# Altium schematic symbol library Sch.SchLib: 44 symbols
Pins are listed as number, name and electrical type; pins without a type are passive.

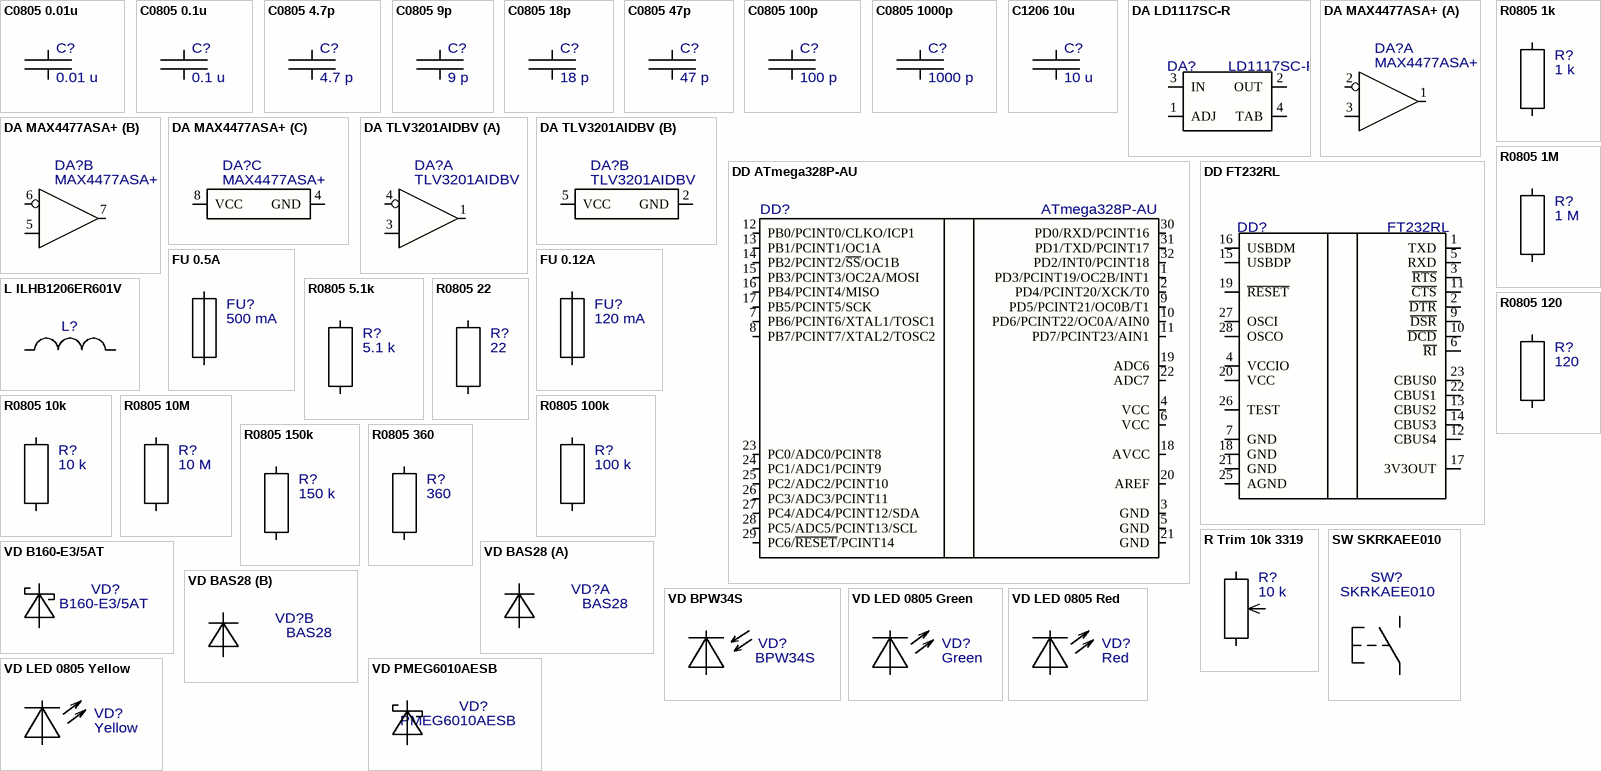
[diagram p0: symbols C0805 0.01u to VD PMEG6010AESB]

## C0805 0.01u
designator C?  value 0.01 u
Ceramic capacitor; Manufacturer: AVX; Part Number: 08055C103KAT2A; Note: 50 VDC X7R -55 +125 10%; Seller: Mouser; Price 10: 0,058; Price 100: 0,026; Price 1000: 0,015
footprint C0805-0.94mm (Chip Capacitor, IPC Medium Density)
pins: 1, 2

## C0805 0.1u
designator C?  value 0.1 u
Ceramic capacitor; Manufacturer: AVX; Part Number: 08055C104KAT2A; Note: 50 VDC X7R -55 +125 10%; Seller: Mouser; Price 10: 0,065; Price 100: 0,030; Price 1000: 0,017
footprint C0805-0.94mm (Chip Capacitor, IPC Medium Density)
pins: 1, 2

## C0805 4.7p
designator C?  value 4.7 p
Ceramic capacitor; Manufacturer: Yageo; Part Number: CC0805CRNPO9BN4R7; Note: 50VDC C0G (NP0) -55 +125 +-0.25p; Seller: Mouser; Price 10: 0,091; Price 100: 0,058; Price 1000: 0,043
footprint C0805-0.94mm (Chip Capacitor, IPC Medium Density)
pins: 1, 2

## C0805 9p
designator C?  value 9 p
Ceramic capacitor; Manufacturer: Yageo; Part Number: CC0805DRNPO9BN9R0; Note: 50 VDC C0G (NP0) -55 +125 0.5pF; Seller: Mouser; Price 10: 0,08; Price 100: 0,037; Price 1000: 0,028
footprint C0805-0.94mm (Chip Capacitor, IPC Medium Density)
pins: 1, 2

## C0805 18p
designator C?  value 18 p
Ceramic capacitor; Manufacturer: Kemet; Part Number: C0805C180K5GACTU; Note: 50 VDC C0G (NP0) -55 +125 10%; Seller: Mouser; Price 10: 0,059; Price 100: 0,041; Price 1000: 0,028
footprint C0805-0.94mm (Chip Capacitor, IPC Medium Density)
pins: 1, 2

## C0805 47p
designator C?  value 47 p
Ceramic capacitor; Manufacturer: Kemet; Part Number: C0805C470J5GACTU; Note: 50 VDC C0G (NP0) -55 +125 10%; Seller: Mouser; Price 10: 0,041; Price 100: 0,028; Price 1000: 0,019
footprint C0805-0.94mm (Chip Capacitor, IPC Medium Density)
pins: 1, 2

## C0805 100p
designator C?  value 100 p
Ceramic capacitor; Manufacturer: Kemet; Part Number: C0805C101J5GACTU; Note: 50 VDC C0G (NP0) -55 +125 10%; Seller: Mouser; Price 10: 0,045; Price 100: 0,030; Price 1000: 0,020
footprint C0805-0.94mm (Chip Capacitor, IPC Medium Density)
pins: 1, 2

## C0805 1000p
designator C?  value 1000 p
Ceramic capacitor; Manufacturer: Kemet; Part Number: C0805C102K5RACTU; Note: 50 VDC X7R -55 +125 10%; Seller: Mouser; Price 10: 0,037; Price 100: 0,026; Price 1000: 0,017
footprint C0805-0.94mm (Chip Capacitor, IPC Medium Density)
pins: 1, 2

## C1206 10u
designator C?  value 10 u
Ceramic capacitor; Manufacturer: Yageo; Part Number: CC1206KKX7R8BB106; Note: 25 VDC X7R -55 +125 10%; Seller: Mouser; Price 10: 0,258; Price 100: 0,123; Price 1000: 0,110
footprint C1206-1.6mm (Chip Capacitor, IPC Medium Density)
pins: 1, 2

## DA LD1117SC-R
designator DA?  Part Number: LD1117SC-R
Adjustable LDO; Manufacturer: ST Microelectronics; Note: 800 mA 1.2V -40 +125 Min load 5 mA; Seller: Mouser; Price 10: 0,561; Price 100: 0,303; Price 1000: 0,227
footprint SOT-223-LD1117SC-R (SOT223, IPC Medium Density)
pins: 1 ADJ (power), 2 OUT (power), 3 IN (power), 4 TAB (power)

## DA MAX4477ASA+
designator DA?  Part Number: MAX4477ASA+
Operational amplifier; Manufacturer: Maxim; Seller: Mouser; Price 10: 2,58; Price 100: 2,58; Price 1000: 2,58
footprint SOIC8-MAX4477ASA (IPC Medium Density)
part A pins: 1 OUT, 2 IN-, 3 IN+
part B pins: 5 IN+, 6 IN-, 7 OUT
part C pins: 4 GND (power), 8 VCC (power)

## DA TLV3201AIDBV
designator DA?  Part Number: TLV3201AIDBV
Push-pull output comparator; Manufacturer: TI; Seller: Mouser; Price 10: 1,67; Price 100: 1,31; Price 1000: 0,773
footprint SOT23-5-TLV3201AIDBV (IPC Medium Density)
part A pins: 1 OUT, 3 IN+, 4 IN-
part B pins: 2 GND (power), 5 VCC (power)

## DD ATmega328P-AU
designator DD?  Part Number: ATmega328P-AU
AVR Microcontroller; Manufacturer: Atmel; Seller: Mouser; Price 10: 3,27; Price 100: 2,71; Price 1000: 2,64
footprint TQFP32-ATmega328P-AU (IPC Medium Density)
pins: 1  PD3/PCINT19/OC2B/INT1, 2 PD4/PCINT20/XCK/T0, 3 GND, 4 VCC, 5 GND, 6 VCC, 7 PB6/PCINT6/XTAL1/TOSC1, 8 PB7/PCINT7/XTAL2/TOSC2, 9 PD5/PCINT21/OC0B/T1, 10 PD6/PCINT22/OC0A/AIN0, 11 PD7/PCINT23/AIN1, 12 PB0/PCINT0/CLKO/ICP1, 13 PB1/PCINT1/OC1A, 14 PB2/PCINT2/~{SS}/OC1B, 15 PB3/PCINT3/OC2A/MOSI, 16 PB4/PCINT4/MISO, 17 PB5/PCINT5/SCK, 18 AVCC, 19 ADC6, 20 AREF, 21 GND, 22 ADC7, 23 PC0/ADC0/PCINT8, 24 PC1/ADC1/PCINT9, 25 PC2/ADC2/PCINT10, 26 PC3/ADC3/PCINT11, 27 PC4/ADC4/PCINT12/SDA, 28 PC5/ADC5/PCINT13/SCL, 29 PC6/~{RESET}/PCINT14, 30 PD0/RXD/PCINT16, 31 PD1/TXD/PCINT17, 32 PD2/INT0/PCINT18

## DD FT232RL
designator DD?  Part Number: FT232RL
USB to UART interface; Manufacturer: FTDI; Seller: Mouser; Price 10: 6,39; Price 100: 5,76; Price 1000: 4,18
footprint SSOP-28-FT232RL (IPC Medium Density)
pins: 1 TXD, 2 ~{DTR}, 3 ~{RTS}, 4 VCCIO, 5 RXD, 6 ~{RI}, 7 GND, 9 ~{DSR}, 10 ~{DCD}, 11 ~{CTS}, 12 CBUS4, 13 CBUS2, 14 CBUS3, 15 USBDP, 16 USBDM, 17 3V3OUT, 18 GND, 19 ~{RESET}, 20 VCC, 21 GND, 22 CBUS1, 23 CBUS0, 25 AGND, 26 TEST, 27 OSCI, 28 OSCO

## FU 0.5A
designator FU?  value 500 mA
PTC resettable fuse; Manufacturer: Bourns; Part Number: MF-NSMF050; Note: Hold 0.5A Trip 1A -40 +85 Vmax 13.2; Seller: Mouser; Price 10: 0,431; Price 100: 0,411; Price 1000: 0,411
footprint FU-MF-NSMF050 (Chip Fuse)
pins: 1, 2

## FU 0.12A
designator FU?  value 120 mA
PTC resettable fuse; Manufacturer: Bourns; Part Number: MF-NSMF012; Note: Hold 0.12A Trip 0.29A -40 +85 Vmax 30; Seller: Mouser; Price 10: 0,431; Price 100: 0,411; Price 1000: 0,411
pins: 1, 2

## L ILHB1206ER601V
designator L?
Multilayer ferrite bead; Manufacturer: Vishay; Part Number: ILHB1206ER601V; Note: 2.5A 25% 600 Ohms; Seller: Mouser; Price 10: 0,189; Price 100: 0,134; Price 1000: 0,110
footprint L-ILHB1206 (Chip Ferrite Bead, IPC Medium Density)
pins: 1, 2

## R0805 1k
designator R?  value 1 k
Thick film resistor; Manufacturer: Yageo; Part Number: RC0805FR-071KL; Note: 150 VDC -55 +155 1% 125mW; Seller: Mouser; Price 1000: 0,006; Price 100: 0,009; Price 10: 0,026
footprint R0805-1-1k (Yageo general purpose chip resistor, IPC Medium Density)
pins: 1, 2

## R0805 1M
designator R?  value 1 M
Thick film resistor; Manufacturer: Yageo; Part Number: RC0805FR-071ML; Note: 150 VDC -55 +155 1% 125mW; Seller: Mouser; Price 10: 0,026; Price 1000: 0,006; Price 100: 0,009
footprint R0805-1-1M (Yageo general purpose chip resistor, IPC Medium Density)
pins: 1, 2

## R0805 5.1k
designator R?  value 5.1 k
Thick film resistor; Manufacturer: Yageo; Part Number: RC0805FR-075K1L; Note: 150 VDC -55 +155 1% 125mW; Seller: Mouser; Price 1000: 0,006; Price 100: 0,009; Price 10: 0,026
footprint R0805-1-5.1k (Yageo general purpose chip resistor, IPC Medium Density)
pins: 1, 2

## R0805 10k
designator R?  value 10 k
Thick film resistor; Manufacturer: Yageo; Part Number: RC0805FR-0710KL; Note: 150 VDC -55 +155 1% 125mW; Seller: Mouser; Price 1000: 0,006; Price 10: 0,026; Price 100: 0,009
footprint R0805-1-10k (Yageo general purpose chip resistor, IPC Medium Density)
pins: 1, 2

## R0805 10M
designator R?  value 10 M
Thick film resistor; Manufacturer: Yageo; Part Number: RC0805FR-0710ML; Note: 150 VDC -55 +155 1% 125mW; Seller: Mouser; Price 100: 0,007; Price 1000: 0,006; Price 10: 0,024
footprint R0805-1-10M (Yageo general purpose chip resistor, IPC Medium Density)
pins: 1, 2

## R0805 22
designator R?  value 22
Thick film resistor; Manufacturer: Yageo; Part Number: RC0805FR-0722RL; Note: 150 VDC -55 +155 1% 125mW; Seller: Mouser; Price 10: 0,026; Price 100: 0,009; Price 1000: 0,006
footprint R0805-1-22 (Yageo general purpose chip resistor, IPC Medium Density)
pins: 1, 2

## R0805 100k
designator R?  value 100 k
Thick film resistor; Manufacturer: Yageo; Part Number: RC0805FR-07100KL; Note: 150 VDC -55 +155 1% 125mW; Seller: Mouser; Price 10: 0,026; Price 1000: 0,006; Price 100: 0,009
footprint R0805-1-100k (Yageo general purpose chip resistor, IPC Medium Density)
pins: 1, 2

## R0805 120
designator R?  value 120
Thick film resistor; Manufacturer: Yageo; Part Number: RC0805FR-07120RL; Note: 150 VDC -55 +155 1% 125mW; Seller: Mouser; Price 10: 0,026; Price 100: 0,009; Price 1000: 0,006
footprint R0805-1-120 (Yageo general purpose chip resistor, IPC Medium Density)
pins: 1, 2

## R0805 150k
designator R?  value 150 k
Thick film resistor; Manufacturer: Yageo; Part Number: RC0805FR-07150KL; Note: 150 VDC -55 +155 1% 125mW; Seller: Mouser; Price 1000: 0,006; Price 10: 0,026; Price 100: 0,009
footprint R0805-1-150k (Yageo general purpose chip resistor, IPC Medium Density)
pins: 1, 2

## R0805 360
designator R?  value 360
Thick film resistor; Manufacturer: Yageo; Part Number: RC0805FR-07360RL; Note: 150 VDC -55 +155 1% 125mW 100PPM; Seller: Mouser; Price 100: 0,009; Price 1000: 0,006; Price 10: 0,026
footprint R0805-1-360 (Yageo general purpose chip resistor, IPC Medium Density)
pins: 1, 2

## R Trim 10k 3319
designator R?  value 10 k
Trimming resistor; Manufacturer: Bourns; Part Number: 3319P-1-103; Note: 200 VDC -25 +100 25% 200mW; Seller: Mouser; Price 10: 0,522; Price 100: 0,452; Price 1000: 0,39
footprint R Trim 10k 3319
pins: 1, 2, 3

## SW SKRKAEE010
designator SW?  Part Number: SKRKAEE010
Button; Manufacturer: ALPS; Note: 3.9x2.9x2 1.57N 200000cycles Travel0.13mm 100mOhm max 50mA 12VDC min 10uA 1VDC; Seller: Mouser; Price 1000: 0,723; Price 100: 0,802; Price 10: 0,962
footprint SW SKRKAEE010
pins: 1, 2

## VD B160-E3/5AT
designator VD?  Part Number: B160-E3/5AT
Shottky diode; Manufacturer: Vishay; Note: 1A 60V 0.75V@1A; Seller: Mouser; Price 1000: 0,097; Price 10: 0,349; Price 100: 0,171
footprint DO-214AC-B160 (Molded Diode, IPC Medium Density)
pins: 1, 2

## VD BAS28
designator VD?  Part Number: BAS28
Double diode; Manufacturer: Nexperia; Note: 215mA 75V 1.25V@150mA; Seller: Mouser; Price 1000: 0,117; Price 10: 0,409; Price 100: 0,171
footprint SOT143B
part A pins: 1, 4
part B pins: 2, 3

## VD BPW34S
designator VD?  Part Number: BPW34S
Photodiode; Manufacturer: Vishay; Note: 7.5 mm2 RiseTime100ns 25 pF; Seller: Mouser; Price 10: 1,36; Price 100: 1,08; Price 1000: 0,927
footprint VD BPW34S
pins: 1 K, 2 A

## VD LED 0805 Green
designator VD?  value Green
LED; Manufacturer: Lite-On; Part Number: LTST-C171GKT; Note: 130 deg 565 nm 12 mcd typ; Seller: Mouser; Price 10: 0,375; Price 100: 0,117; Price 1000: 0,089
footprint VD LED 0805 (IPC Medium Density)
pins: 1 K, 2 A

## VD LED 0805 Red
designator VD?  value Red
LED; Manufacturer: Lite-On; Part Number: LTST-C171KRKT; Note: 130 deg 639 nm 54 mcd typ; Seller: Mouser; Price 100: 0,121; Price 10: 0,392; Price 1000: 0,093
footprint VD LED 0805 (IPC Medium Density)
pins: 1 K, 2 A

## VD LED 0805 Yellow
designator VD?  value Yellow
LED; Manufacturer: Lite-On; Part Number: LTST-C171KSKT; Note: 130 deg 588 nm 60 mcd typ; Seller: Mouser; Price 10: 0,422; Price 100: 0,132; Price 1000: 0,100
footprint VD LED 0805 (IPC Medium Density)
pins: 1 K, 2 A

## VD PMEG6010AESB
designator VD?  Part Number: PMEG6010AESB
Shottky diode; Manufacturer: Nexperia; Note: 1A 60V 0.525V@1A; Seller: Mouser; Price 1000: 0,121; Price 10: 0,362; Price 100: 0,154
footprint SOD993 (Diode, IPC Low Density)
pins: 1, 2

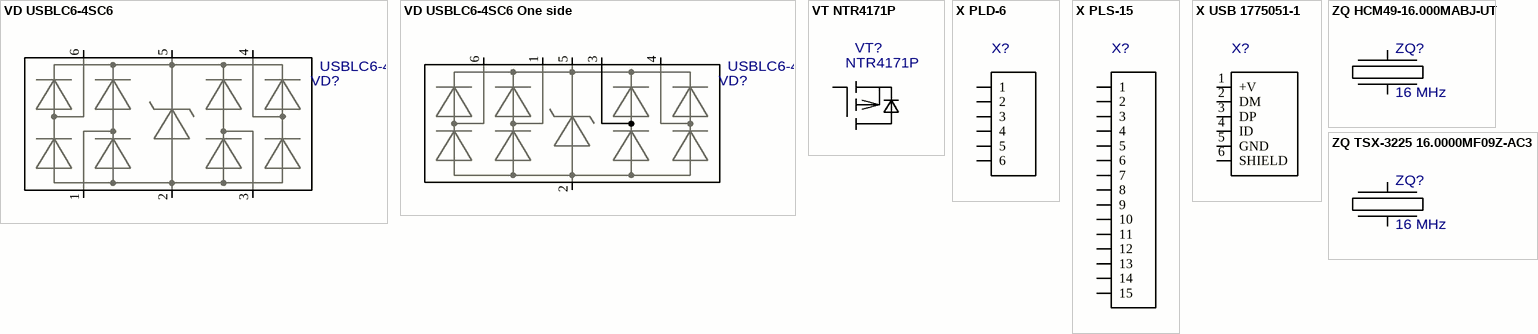
[diagram p1: symbols VD USBLC6-4SC6 to ZQ TSX-3225 16.0000MF09Z-AC3]

## VD USBLC6-4SC6
designator VD?  Part Number: USBLC6-4SC6
ESD protection; Manufacturer: ST; Seller: Mouser; Price 10: 0,520; Price 100: 0,318; Price 1000: 0,245
footprint SOT23-6-USBLC6-4 (IPC Medium Density)
pins: 1, 2, 3, 4, 5, 6

## VD USBLC6-4SC6 One side
designator VD?  Part Number: USBLC6-4SC6
ESD protection; Manufacturer: ST; Seller: Mouser; Price 100: 0,318; Price 10: 0,520; Price 1000: 0,245
footprint SOT23-6-USBLC6-4 (IPC Medium Density)
pins: 1, 2, 3, 4, 5, 6

## VT NTR4171P
designator VT?  Part Number: NTR4171P
P-channel MOSFET; Manufacturer: ON Semiconductor; Note: 110mOhm @ 4.5V 30V 3.5A; Seller: Mouser; Price 1000: 0,173; Price 10: 0,424; Price 100: 0,228
footprint SOT23-NTR4171P (IPC Medium Density)
pins: 1 G, 2 S, 3 D

## X PLD-6
designator X?
PLD connector; Manufacturer: TE Connectivity; Part Number: 5-146254-3; Seller: Mouser; Price 10: 0,726; Price 100: 0,492; Price 1000: 0,385
footprint X PLD-6
pins: 1, 2, 3, 4, 5, 6

## X PLS-15
designator X?
PLS connector; Manufacturer: Molex; Seller: Mouser; Part Number: 22-28-4150; Price 100: 0,806; Price 1000: 0,585; Price 10: 0,916
footprint X PLS-15
pins: 1, 2, 3, 4, 5, 6, 7, 8, 9, 10, 11, 12, 13, 14, 15

## X USB 1775051-1
designator X?
USB connector; Manufacturer: TE; Part Number: 1775051-1; Note: Mini USB Type AB Female; Seller: Mouser; Price 100: 1,40; Price 10: 1,85; Price 1000: 1,40
footprint X USB 1775051-1
pins: 1 +V, 2 DM, 3 DP, 4 ID, 5 GND, 6 SHIELD

## ZQ HCM49-16.000MABJ-UT
designator ZQ?  value 16 MHz
Crystal; Manufacturer: Citizen; Part Number: HCM49-16.000MABJ-UT; Note: -40 +85 50 ppm; Seller: Mouser; Price 10: 0,884; Price 1000: 0,518; Price 100: 0,544
footprint ZQ HCM49-16.000MABJ-UT
pins: 1, 2

## ZQ TSX-3225 16.0000MF09Z-AC3
designator ZQ?  value 16 MHz
Crystal; Manufacturer: Citizen; Part Number: TSX-3225 16.0000MF09Z-AC3; Note: -20 +75 10 ppm; Seller: Mouser; Price 100: 0,537; Price 1000: 0,537; Price 10: 0,606
footprint ZQ TSX-3225 16.0000MF09Z-AC3
pins: 1, 3